# Altium footprint library MODULE_RP2040-ZERO.PcbLib: 1 footprints
Each footprint in its own frame and in the unit in brackets; x right, y up, seen from the top. Pads: shape width x height; smd on the part's side, far side on the other; paste and mask are expansions set on the pad; w line width, h text height; cw(c..) or ccw(c..) is an arc to the next point about the centre after c.
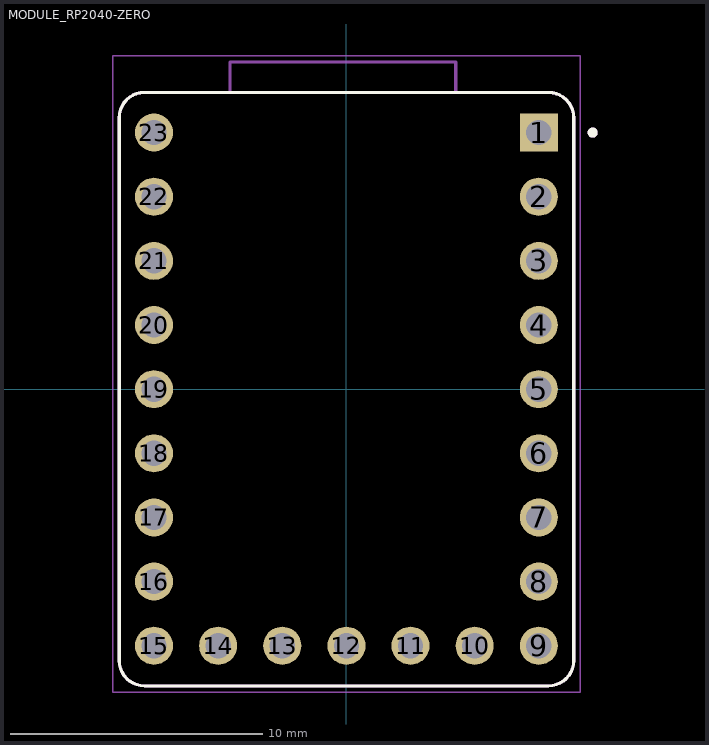
[diagram p0: the footprint, top view; thin cyan lines are the x and y axes]

## MODULE_RP2040-ZERO [mm]
height 5.35
pads (23):
  rect 1.508x1.508 / inner round 1.508 / far side rect 1.508x1.508 hole 1: 1(7.62,10.16)
  round 1.508 hole 1: 2(7.62,7.62) 3(7.62,5.08) 4(7.62,2.54) 5(7.62,0) 6(7.62,-2.54) 7(7.62,-5.08) 8(7.62,-7.62) 9(7.62,-10.16) 10(5.08,-10.16) 11(2.54,-10.16) 12(0,-10.16) 13(-2.54,-10.16) 14(-5.08,-10.16) 15(-7.62,-10.16) 16(-7.62,-7.62) 17(-7.62,-5.08) 18(-7.62,-2.54) 19(-7.62,0) 20(-7.62,2.54) 21(-7.62,5.08) 22(-7.62,7.62) 23(-7.62,10.16)
Top Overlay:
  circle w0.2: c9.75,10.16 r0.1
  lines w0.127: -9,-10.75 ccw(c-8,-10.75) -8,-11.75 8,-11.75 ccw(c8,-10.75) 9,-10.75 9,10.75 ccw(c8,10.75) 8,11.75 -8,11.75 ccw(c-8,10.75) -9,10.75 -9,-10.75
Assembly Top:
  circle w0.2: c9.75,10.16 r0.1
  lines w0.127: -4.61,11.75 -4.61,12.95 4.33,12.95 4.33,11.75 ; -4.61,11.75 -8,11.75 ccw(c-8,10.75) -9,10.75 -9,-10.75 ccw(c-8,-10.75) -8,-11.75 8,-11.75 ccw(c8,-10.75) 9,-10.75 9,10.75 ccw(c8,10.75) 8,11.75 4.33,11.75 ; -4.61,11.75 4.33,11.75
Courtyard Top:
  lines w0.05: -9.25,-12 9.25,-12 9.25,13.2 -9.25,13.2 -9.25,-12
3D body "step_temp.STEP": height 14.35, standoff 9, extent -9,-11.75 9,12.95